# Altium schematic symbol library Biotaitan.Schlib: 63 symbols
Pins are listed as number, name and electrical type; pins without a type are passive.

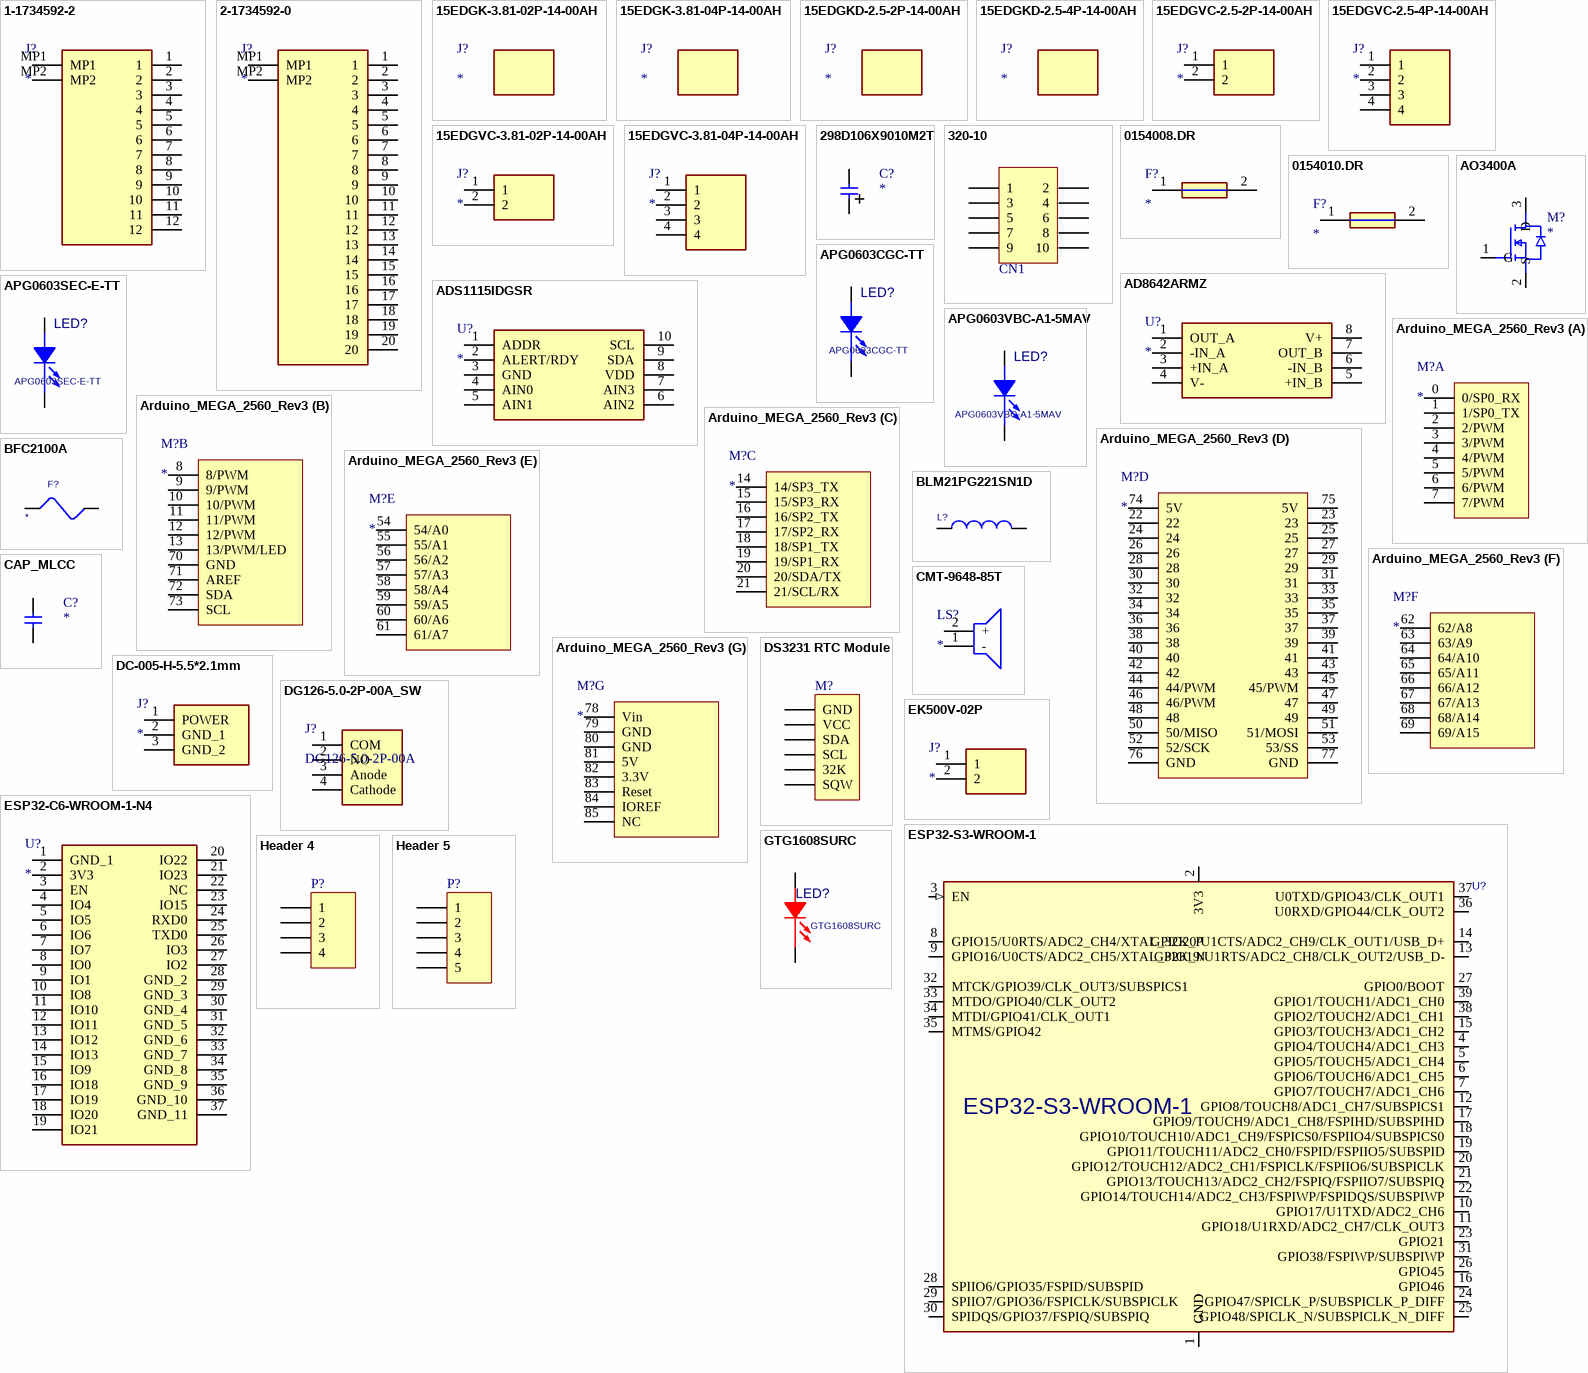
[diagram p0: symbols 1-1734592-2 to Header 5]

## 1-1734592-2
designator J?
FFC和FPC連接器 0.5mm PITCH B/C 12P
footprint 117345922
pins: 1, 2, 3, 4, 5, 6, 7, 8, 9, 10, 11, 12, MP1, MP2

## 2-1734592-0
designator J?
FFC和FPC連接器 0.5mm PITCH B/C 20P
footprint 217345920
pins: 1, 2, 3, 4, 5, 6, 7, 8, 9, 10, 11, 12, 13, 14, 15, 16, 17, 18, 19, 20, MP1, MP2

## 15EDGK-3.81-02P-14-00AH
designator J?
端子接頭(百年)
footprint 15EDGK-3.81-02P-14-00AH

## 15EDGK-3.81-04P-14-00AH
designator J?
端子接頭(百年)
footprint 15EDGK-3.81-04P-14-00AH

## 15EDGKD-2.5-2P-14-00AH
designator J?
端子接頭(百年)
footprint 15EDGKD-2.5-2P-14-00AH

## 15EDGKD-2.5-4P-14-00AH
designator J?
端子接頭(百年)
footprint 15EDGKD-2.5-4P-14-00AH (Footprint not found)

## 15EDGVC-2.5-2P-14-00AH
designator J?
端子台(百年)
footprint 15EDGVC-2.5-2P-14-00AH
pins: 1, 2

## 15EDGVC-2.5-4P-14-00AH
designator J?
端子台(百年)
footprint 15EDGVC-2.5-4P-14-00AH (Footprint not found)
pins: 1, 2, 3, 4

## 15EDGVC-3.81-02P-14-00AH
designator J?
端子台(百年)
footprint 15EDGVC-3.81-02P-14-00AH
pins: 1, 2

## 15EDGVC-3.81-04P-14-00AH
designator J?
端子台(百年)
footprint 15EDGVC-3.81-04P-14-00AH
pins: 1, 2, 3, 4

## 298D106X9010M2T
designator C?
鉭電容 - 固態 SMD 10uF 10volts 10% M case MAP
footprint CC0603
pins: 1, 2

## 320-10
designator CN1  (value not drawn)
IDC_(100y) VER TH 10POS 2.54MM
footprint SHDR10W70P254_2X5_2000X850X900P
pins: 1, 2, 3, 4, 5, 6, 7, 8, 9, 10

## 0154008.DR
designator F?
Fuse
footprint 0154001.DRT
pins: 1, 2

## 0154010.DR
designator F?
Fuse
footprint 0154001.DRT
pins: 1, 2

## AD8642ARMZ
designator U?
精密放大器 DUAL LOW POWER/IBIAS, R-R JFET AMP
footprint SOP65P490X110-8N
pins: 1 OUT_A, 2 -IN_A, 3 +IN_A, 4 V-, 5 +IN_B, 6 -IN_B, 7 OUT_B, 8 V+

## ADS1115IDGSR
designator U?
類比數位轉換器 - ADC 16B ADC w/ Int MUX PGA Comp Osc & Ref
footprint SOP50P490X110-10N
pins: 1 ADDR, 2 ALERT/RDY, 3 GND, 4 AIN0, 5 AIN1, 6 AIN2, 7 AIN3, 8 VDD, 9 SDA, 10 SCL

## AO3400A
designator M?
30V N-Channel MOSFET
footprint SOT95P240X110-3N
pins: 1 G, 2 S, 3 D

## APG0603CGC-TT
designator LED?
0.65 mm x 0.35 mm SMD LED, 0.2 mm thickness
footprint APG0603_LED
pins: 1 CATHODE, 2 ANODE

## APG0603SEC-E-TT
designator LED?
0.65 mm x 0.35 mm SMD LED, 0.2 mm thickness
footprint APG0603_LED
pins: 1 CATHODE, 2 ANODE

## APG0603VBC-A1-5MAV
designator LED?
0.65 mm x 0.35 mm SMD LED, 0.2 mm thickness
footprint APG0603_LED
pins: 1 CATHODE, 2 ANODE

## Arduino_MEGA_2560_Rev3
designator M?
Arduino_MEGA_2560-Rev3
footprint Arduino_MEGA_2560-Rev3
part A pins: 0 0/SP0_RX, 1 1/SP0_TX, 2 2/PWM, 3 3/PWM, 4 4/PWM, 5 5/PWM, 6 6/PWM, 7 7/PWM
part B pins: 8 8/PWM, 9 9/PWM, 10 10/PWM, 11 11/PWM, 12 12/PWM, 13 13/PWM/LED, 70 GND, 71 AREF, 72 SDA, 73 SCL
part C pins: 14 14/SP3_TX, 15 15/SP3_RX, 16 16/SP2_TX, 17 17/SP2_RX, 18 18/SP1_TX, 19 19/SP1_RX, 20 20/SDA/TX, 21 21/SCL/RX
part D pins: 22, 23, 24, 25, 26, 27, 28, 29, 30, 31, 32, 33, 34, 35, 36, 37, 38, 39, 40, 41, 42, 43, 44 44/PWM, 45 45/PWM, 46 46/PWM, 47, 48, 49, 50 50/MISO, 51 51/MOSI, 52 52/SCK, 53 53/SS, 74 5V, 75 5V, 76 GND, 77 GND
part E pins: 54 54/A0, 55 55/A1, 56 56/A2, 57 57/A3, 58 58/A4, 59 59/A5, 60 60/A6, 61 61/A7
part F pins: 62 62/A8, 63 63/A9, 64 64/A10, 65 65/A11, 66 66/A12, 67 67/A13, 68 68/A14, 69 69/A15
part G pins: 78 Vin, 79 GND, 80 GND, 81 5V, 82 3.3V, 83 Reset, 84 IOREF, 85 NC

## BFC2100A
designator F?
FUSE_CERAMIC 15A 250VAC 5X20MM(百年)
footprint FUSE_215_5X20MM

## BLM21PG221SN1D
designator L?  (value not drawn)
Ferrite Bead_220 ohm @ 100 MHz, 2 A, 0805
footprint CC0805
pins: 1, 2

## CAP_MLCC
designator C?
CAP_MLCC
footprint CC0402
footprint CC0603
footprint CC0805
pins: 1, 2

## CMT-9648-85T
designator LS?
Loudspeaker or Buzzer
footprint CMT964885T
pins: 1 -, 2 +

## DC-005-H-5.5*2.1mm
designator J?
DC-005-H-5.5*2.1mm(百年)
footprint DC-005-H-5.5*2.1mm
pins: 1 POWER, 2 GND_1, 3 GND_2

## DG126-5.0-2P-00A_SW
designator J?, comment DG126-5.0-2P-00A
端子台
footprint DG126-5.0-2P-00A_PW_SW
pins: 1 COM, 2 NO, 3 Anode, 4 Cathode

## DS3231 RTC Module
designator M?
DS3231 RTC Module
footprint DS3231 RTC Module (Connector; Header; 4 Position)
pins: 1 GND, 2 VCC, 3 SDA, 4 SCL, 5 32K, 6 SQW

## EK500V-02P
designator J?
端子台-EK500V-02P(百年)
footprint 2828372
pins: 1, 2

## ESP32-C6-WROOM-1-N4
designator U?
ESP32 C6 Moudle
footprint ESP32C6WROOM1N4
pins: 1 GND_1, 2 3V3, 3 EN, 4 IO4, 5 IO5, 6 IO6, 7 IO7, 8 IO0, 9 IO1, 10 IO8, 11 IO10, 12 IO11, 13 IO12, 14 IO13, 15 IO9, 16 IO18, 17 IO19, 18 IO20, 19 IO21, 20 IO22, 21 IO23, 22 NC, 23 IO15, 24 RXD0, 25 TXD0, 26 IO3, 27 IO2, 28 GND_2, 29 GND_3, 30 GND_4, 31 GND_5, 32 GND_6, 33 GND_7, 34 GND_8, 35 GND_9, 36 GND_10, 37 GND_11

## ESP32-S3-WROOM-1
designator U?, comment ESP32-S3-WROOM-1-N8R2  (value not drawn)
MCU_ESP32-S3 8M Flash 2MB SRAM with PCB Antenan
footprint ESP32S3WROOM1N8R2
pins: 1 GND (power), 2 3V3 (power), 3 EN (in), 4 GPIO4/TOUCH4/ADC1_CH3 (io), 5 GPIO5/TOUCH5/ADC1_CH4 (io), 6 GPIO6/TOUCH6/ADC1_CH5 (io), 7 GPIO7/TOUCH7/ADC1_CH6 (io), 8 GPIO15/U0RTS/ADC2_CH4/XTAL_32K_P (io), 9 GPIO16/U0CTS/ADC2_CH5/XTAL_32K_N (io), 10 GPIO17/U1TXD/ADC2_CH6 (io), 11 GPIO18/U1RXD/ADC2_CH7/CLK_OUT3 (io), 12 GPIO8/TOUCH8/ADC1_CH7/SUBSPICS1 (io), 13 GPIO19/U1RTS/ADC2_CH8/CLK_OUT2/USB_D- (io), 14 GPIO20/U1CTS/ADC2_CH9/CLK_OUT1/USB_D+ (io), 15 GPIO3/TOUCH3/ADC1_CH2 (io), 16 GPIO46 (io), 17 GPIO9/TOUCH9/ADC1_CH8/FSPIHD/SUBSPIHD (io), 18 GPIO10/TOUCH10/ADC1_CH9/FSPICS0/FSPIIO4/SUBSPICS0 (io), 19 GPIO11/TOUCH11/ADC2_CH0/FSPID/FSPIIO5/SUBSPID (io), 20 GPIO12/TOUCH12/ADC2_CH1/FSPICLK/FSPIIO6/SUBSPICLK (io), 21 GPIO13/TOUCH13/ADC2_CH2/FSPIQ/FSPIIO7/SUBSPIQ (io), 22 GPIO14/TOUCH14/ADC2_CH3/FSPIWP/FSPIDQS/SUBSPIWP (io), 23 GPIO21 (io), 24 GPIO47/SPICLK_P/SUBSPICLK_P_DIFF (io), 25 GPIO48/SPICLK_N/SUBSPICLK_N_DIFF (io), 26 GPIO45 (io), 27 GPIO0/BOOT (io), 28 SPIIO6/GPIO35/FSPID/SUBSPID (io), 29 SPIIO7/GPIO36/FSPICLK/SUBSPICLK (io), 30 SPIDQS/GPIO37/FSPIQ/SUBSPIQ (io), 31 GPIO38/FSPIWP/SUBSPIWP (io), 32 MTCK/GPIO39/CLK_OUT3/SUBSPICS1 (io), 33 MTDO/GPIO40/CLK_OUT2 (io), 34 MTDI/GPIO41/CLK_OUT1 (io), 35 MTMS/GPIO42 (io), 36 U0RXD/GPIO44/CLK_OUT2 (io), 37 U0TXD/GPIO43/CLK_OUT1 (io), 38 GPIO2/TOUCH2/ADC1_CH1 (io), 39 GPIO1/TOUCH1/ADC1_CH0 (io), 40 GND, 41 GND

## GTG1608SURC
designator LED?
LED0603_RED(百年)
footprint LED0603_RED
pins: 1 CATHODE, 2 ANODE

## Header 4
designator P?
Header_2.54mm 4Pin
footprint HDR1X4_2.54_ST_H8.54 (Connector; Header; 4 Position)
pins: 1, 2, 3, 4

## Header 5
designator P?
D15-40P/全長-14.2MM(百年)
footprint HDR1X5_2.54_ST_H8.54 (Connector; Header; 4 Position)
pins: 1, 2, 3, 4, 5

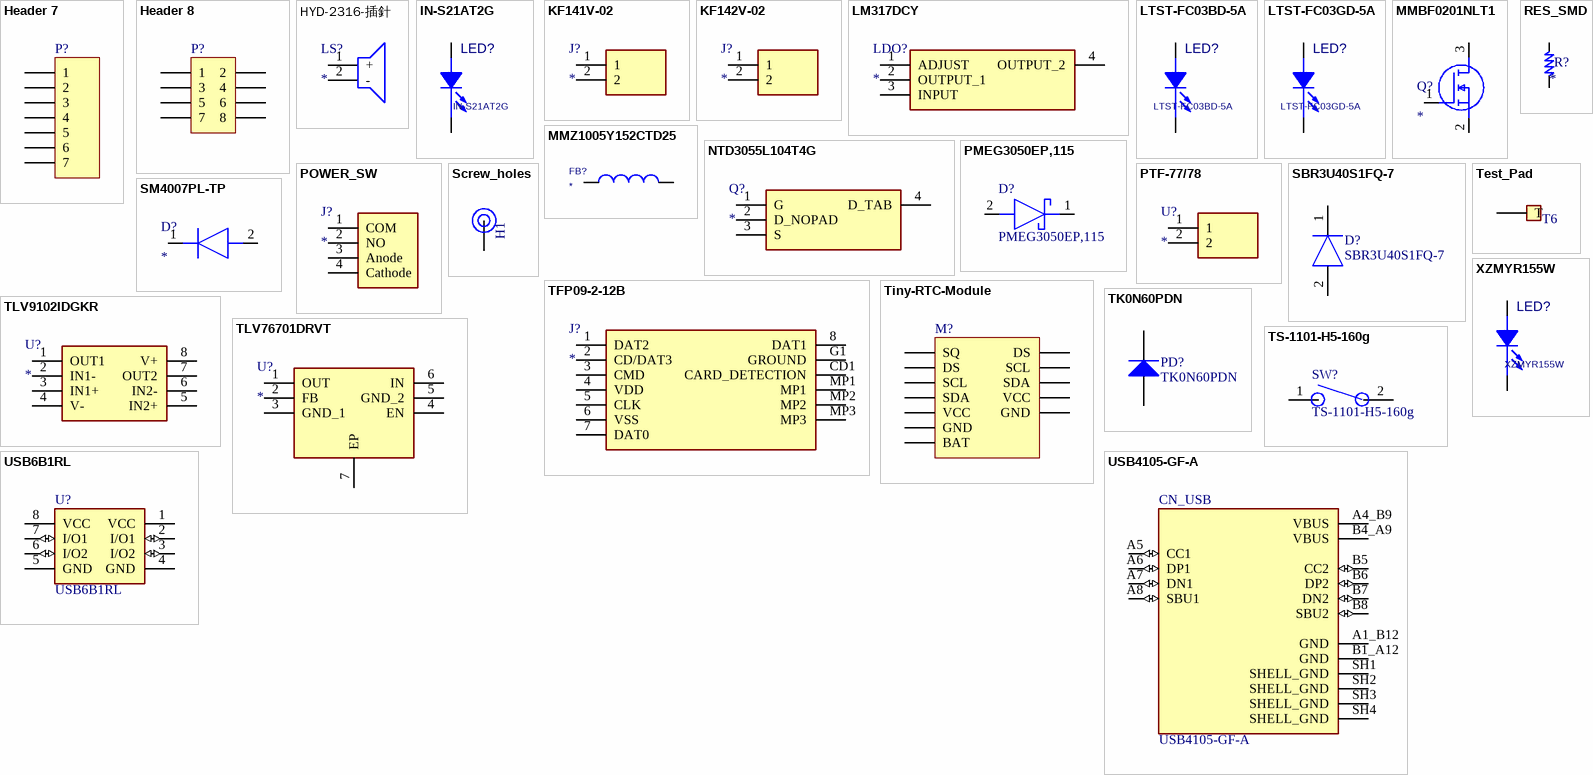
[diagram p1: symbols Header 7 to XZMYR155W]

## Header 7
designator P?
D15-40P/全長-14.2MM(百年)
footprint HDR1X7_2.54_ST_H8.54 (Connector; Header; 4 Position)
pins: 1, 2, 3, 4, 5, 6, 7

## Header 8
designator P?
Header_2.54mm 8Pin
footprint HDR2X4_2.54_ST_H8.54 (Connector; Header; 8 Position)
pins: 1, 2, 3, 4, 5, 6, 7, 8

## HYD-2316-插針
designator LS?
Loudspeaker or Buzzer(百年)
footprint CPI231685T
pins: 1 +, 2 -

## IN-S21AT2G
designator LED?
0201 0.35mm SMD LED
footprint IN-S21AT2G
pins: 1 CATHODE, 2 ANODE

## KF141V-02
designator J?
端子台(廣華)
footprint KF141V-02
pins: 1, 2

## KF142V-02
designator J?
端子台(廣華)
footprint KF142V-02
pins: 1, 2

## LM317DCY
designator LDO?
線性電壓穩壓器 3 T 1.5A Adj Pos V
footprint SOT230P700X180-4N
pins: 1 ADJUST, 2 OUTPUT_1, 3 INPUT, 4 OUTPUT_2

## LTST-FC03BD-5A
designator LED?
0.65 mm x 0.35 mm SMD LED, 0.2 mm thickness
footprint LTST_FC03_LED
pins: 1 CATHODE, 2 ANODE

## LTST-FC03GD-5A
designator LED?
0.65 mm x 0.35 mm SMD LED, 0.2 mm thickness
footprint LTST_FC03_LED
pins: 1 CATHODE, 2 ANODE

## MMBF0201NLT1
designator Q?
MOSFET (N-Channel)(百年)
footprint SOT65P210X110-3N
pins: 1 G, 2 S, 3 D

## MMZ1005Y152CTD25
designator FB?
鐵氧體磁珠 0402 1500ohms 100mA Signal Line AEC-Q200
footprint BEADC1005X55N
pins: 1, 2

## NTD3055L104T4G
designator Q?
MOSFET 60V 12A N-Channel
footprint TO229P990X238-4N
pins: 1 G, 2 D_NOPAD, 3 S, 4 D_TAB

## PMEG3050EP,115
designator D?
Schottky_RECT 30V 5A VF 0.315V
footprint PMEG3050EP115
pins: 1 K, 2 A

## POWER_SW
designator J?
帶燈Switch
footprint POWER_SW (Connector; Header; 4 Position)
pins: 1 COM, 2 NO, 3 Anode, 4 Cathode

## PTF-77/78
designator U?
保險絲座 5X20MM Pitch 22/7 UL94V0 Open / (百年)
footprint 0PTF0078P
pins: 1, 2

## RES_SMD
designator R?
RES_
footprint CC0402_R
footprint CC0603_R
footprint CC0805_R
pins: 1, 2
2 alternate drawings of the same symbol

## SBR3U40S1FQ-7
designator D?
DIODE_ 40V 3A SOD123F
footprint SODFL3518X115N
pins: 1 K, 2 A

## Screw_holes
designator H1, comment Screw_holes_3p5mm  (value not drawn)  (no BOM)
Screw holes
footprint Screw_holes_3p5mm
footprint Screw_holes_2p3mm
pins: 1

## SM4007PL-TP
designator D?
整流器 1A, 1000V 1A, 1000V
footprint SM4007PLTP
pins: 1 K, 2 A

## Test_Pad
designator T6  (value not drawn)  (no BOM)
footprint Test_Pad_40mil
pins: 1 T

## TFP09-2-12B
designator J?
Micro SD Card Connector(百年)
footprint TFP09212B
pins: 1 DAT2, 2 CD/DAT3, 3 CMD, 4 VDD, 5 CLK, 6 VSS, 7 DAT0, 8 DAT1, CD1 CARD_DETECTION, G1 GROUND, MP1, MP2, MP3

## Tiny-RTC-Module
designator M?
DS1307 RTC Module / (百年)100698
footprint TINY RTC I2C Module (Connector; Header; 4 Position)
pins: 1 SQ, 2 DS, 3 SCL, 4 SDA, 5 VCC, 6 GND, 7 BAT, 8 GND, 9 VCC, 10 SDA, 11 SCL, 12 DS

## TK0N60PDN
designator PD?
Si Photo-diode Chip
footprint TK0N60PDN
pins: 1 K, 2 A

## TLV9102IDGKR
designator U?
運算放大器 - 運放器
footprint SOP65P490X110-8N
pins: 1 OUT1, 2 IN1-, 3 IN1+, 4 V-, 5 IN2+, 6 IN2-, 7 OUT2, 8 V+

## TLV76701DRVT
designator U?
LDO電壓穩壓器 Adjustable- and fixed-output, 1-A, 16-V, positive-voltage low-dropout (LDO) linear regulator 6-WSON -40 to 125
footprint SON65P200X200X80-7N
pins: 1 OUT, 2 FB, 3 GND_1, 4 EN, 5 GND_2, 6 IN, 7 EP

## TS-1101-H5-160g
designator SW?
Switch_Tact Switch / TS-1101-H5-160g(百年)
footprint TS-1101-H5-160g (SMD Tact Switch, body 6x3.5mm)
pins: 1 COM_1, 2 NO_1

## USB6B1RL
designator U?
TVS_6V 25A/ ESD_2-Channel +/-8kV
footprint SOIC127P600X175-8N
pins: 1 VCC, 2 I/O1 (io), 3 I/O2 (io), 4 GND, 5 GND, 6 I/O2 (io), 7 I/O1 (io), 8 VCC

## USB4105-GF-A
designator CN_USB
USB_Type-C (USB2.0) 24P(16+8 Dummy)  SMD RA
footprint USB4105-GF-A
pins: A1_B12 GND (power), A4_B9 VBUS (power), A5 CC1 (io), A6 DP1 (io), A7 DN1 (io), A8 SBU1 (io), B1_A12 GND (power), B4_A9 VBUS (power), B5 CC2 (io), B6 DP2 (io), B7 DN2 (io), B8 SBU2 (io), SH1 SHELL_GND (power), SH2 SHELL_GND (power), SH3 SHELL_GND (power), SH4 SHELL_GND (power)

## XZMYR155W
designator LED?
0.65 mm x 0.35 mm SMD LED, 0.2 mm thickness
footprint APG0603_LED
pins: 1 CATHODE, 2 ANODE